# Altium schematic symbol library Electrolytic Capacitor.SchLib: 15 symbols
Pins are listed as number, name and electrical type; pins without a type are passive.

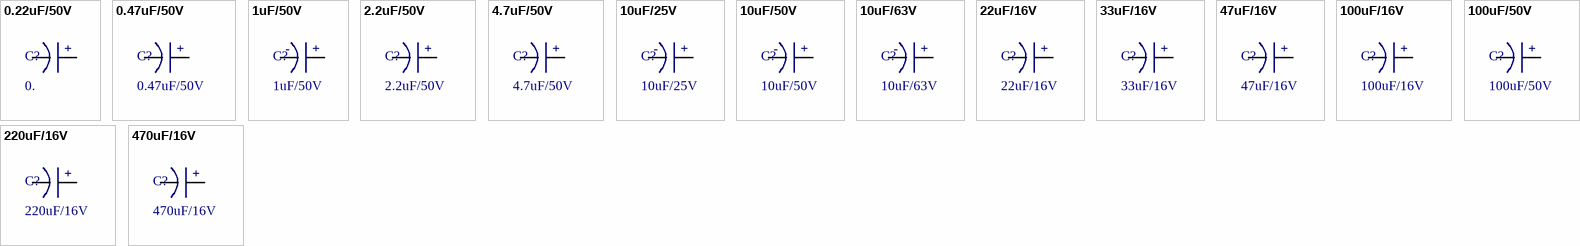
[diagram p0: symbols 0.22uF/50V to 470uF/16V]

## 0.22uF/50V
designator C?, comment 0.
Electrolytic Capacitor 0.22uF/50V
footprint 0.22uF/50V (ELECTROLYTIC CAPACITOR 4mm)
pins: 1, 2  2
text: +

## 0.47uF/50V
designator C?
Electrolytic Capacitor 0.47uF/50V
footprint 0.47uF/50V (ELECTROLYTIC CAPACITOR 4mm)
pins: 1, 2  2
text: +

## 1uF/50V
designator C?
Electrolytic Capacitor 1uF/50V
footprint 1uF/50V
pins: 1, 2  2
text: -; +

## 2.2uF/50V
designator C?
Electrolytic Capacitor 2.2uF/50V
footprint 2.2uF/50V (ELECTROLYTIC CAPACITOR 4mm)
pins: 1, 2  2
text: +

## 4.7uF/50V
designator C?
Electrolytic Capacitor 4.7uF/50V
footprint 4.7uF/50V (ELECTROLYTIC CAPACITOR 4mm)
pins: 1, 2  2
text: +

## 10uF/25V
designator C?
Electrolytic Capacitor 10uF/25V
footprint 10uF/25V 4mm (ELECTROLYTIC CAPACITOR 4mm)
footprint 10uF/25V 5mm (ELECTROLYTIC CAPACITOR 5mm)
pins: 1, 2  2
text: -; +

## 10uF/50V
designator C?
Electrolytic Capacitor 10uF/50V
footprint 10uF/50V (ELECTROLYTIC CAPACITOR 4mm)
pins: 1, 2  2
text: -; +

## 10uF/63V
designator C?
Electrolytic Capacitor 10uF/63V
footprint 10uF/63V
pins: 1, 2  2
text: -; +

## 22uF/16V
designator C?
Electrolytic Capacitor 22uF/16V
footprint 22uF/16V (ELECTROLYTIC CAPACITOR 5mm)
pins: 1, 2  2
text: +

## 33uF/16V
designator C?
Electrolytic Capacitor 33uF/16V
footprint 33uF/16V (ELECTROLYTIC CAPACITOR 5mm)
pins: 1, 2  2
text: +

## 47uF/16V
designator C?
Electrolytic Capacitor 47uF/16V
footprint 47uF/16V (ELECTROLYTIC CAPACITOR 4mm)
pins: 1, 2  2
text: +

## 100uF/16V
designator C?
Electrolytic Capacitor 100uF/16V
footprint 100uF/16V (ELECTROLYTIC CAPACITOR 6mm)
pins: 1, 2  2
text: +

## 100uF/50V
designator C?
Electrolytic Capacitor 100uF/50V
footprint 100uF/50V (ELECTROLYTIC CAPACITOR 4mm)
pins: 1, 2  2
text: +

## 220uF/16V
designator C?
Electrolytic Capacitor 220uF/16V
footprint 220uF/16V (ELECTROLYTIC CAPACITOR 6mm)
pins: 1, 2  2
text: +

## 470uF/16V
designator C?
Electrolytic Capacitor 470uF/16V
footprint 470uF/16V (ELECTROLYTIC CAPACITOR 6mm)
pins: 1, 2  2
text: +